# Altium schematic symbol library SAMD21_Main_SCH_Lib.SCHLIB: 16 symbols
Pins are listed as number, name and electrical type; pins without a type are passive.

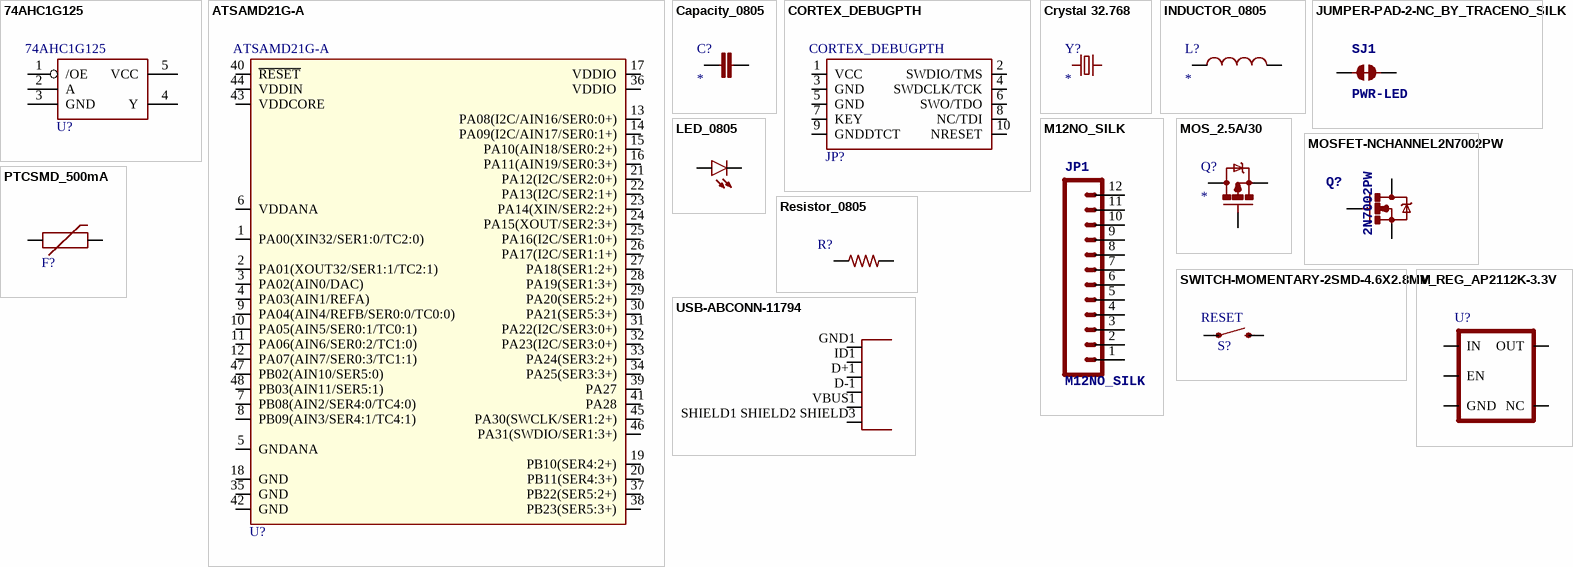
[diagram p0: symbols 74AHC1G125 to V_REG_AP2112K-3.3V]

## 74AHC1G125
designator U?
Single bus buffer gate with 3-state output
footprint SOT23-5
pins: 1 /OE, 2 A, 3 GND, 4 Y, 5 VCC

## ATSAMD21G-A
designator U?
footprint TQFP-48
pins: 1 PA00(XIN32/SER1:0/TC2:0), 2 PA01(XOUT32/SER1:1/TC2:1), 3 PA02(AIN0/DAC), 4 PA03(AIN1/REFA), 5 GNDANA, 6 VDDANA, 7 PB08(AIN2/SER4:0/TC4:0), 8 PB09(AIN3/SER4:1/TC4:1), 9 PA04(AIN4/REFB/SER0:0/TC0:0), 10 PA05(AIN5/SER0:1/TC0:1), 11 PA06(AIN6/SER0:2/TC1:0), 12 PA07(AIN7/SER0:3/TC1:1), 13 PA08(I2C/AIN16/SER0:0+), 14 PA09(I2C/AIN17/SER0:1+), 15 PA10(AIN18/SER0:2+), 16 PA11(AIN19/SER0:3+), 17 VDDIO, 18 GND, 19 PB10(SER4:2+), 20 PB11(SER4:3+), 21 PA12(I2C/SER2:0+), 22 PA13(I2C/SER2:1+), 23 PA14(XIN/SER2:2+), 24 PA15(XOUT/SER2:3+), 25 PA16(I2C/SER1:0+), 26 PA17(I2C/SER1:1+), 27 PA18(SER1:2+), 28 PA19(SER1:3+), 29 PA20(SER5:2+), 30 PA21(SER5:3+), 31 PA22(I2C/SER3:0+), 32 PA23(I2C/SER3:0+), 33 PA24(SER3:2+), 34 PA25(SER3:3+), 35 GND, 36 VDDIO, 37 PB22(SER5:2+), 38 PB23(SER5:3+), 39 PA27, 40 ~{RESET}, 41 PA28, 42 GND, 43 VDDCORE, 44 VDDIN, 45 PA30(SWCLK/SER1:2+), 46 PA31(SWDIO/SER1:3+), 47 PB02(AIN10/SER5:0), 48 PB03(AIN11/SER5:1)

## Capacity_0805
designator C?
footprint C0805 (Chip Capacity, 2-Leads, Body 2,10x1,30mm, IPC Medium Density)
pins: 1, 2

## CORTEX_DEBUGPTH
designator JP?
footprint 2X5-PTH-1.27MM
pins: 1 VCC, 2 SWDIO/TMS, 3 GND, 4 SWDCLK/TCK, 5 GND, 6 SWO/TDO, 7 KEY, 8 NC/TDI, 9 GNDDTCT, 10 NRESET

## Crystal 32.768
designator Y?
footprint CRYSTAL-SMD-3.2X1.5MM
pins: P$1 1, P$2 2

## INDUCTOR_0805
designator L?
footprint L0805 (Chip Inductor, 2-Leads, Body 2,10x1,30mm, IPC Medium Density)
pins: 1, 2

## JUMPER-PAD-2-NC_BY_TRACENO_SILK
designator SJ?, comment >NAME: SJ1  (hidden comment: PWR-LED)
>VALUE: PWR-LED
footprint PAD-JUMPER-2-NC_BY_TRACE_NO_SILK
pins: 1, 2

## LED_0805
designator D?, comment Yellow  (value not drawn)
footprint LED-0805 (Chip Resistor, 2-Leads, Body 2,10x1,30mm, IPC Medium Density)
pins: A, C

## M12NO_SILK
designator JP?  >NAME: JP1  (hidden comment: M12NO_SILK)
<b>Header 12</b> / Standard 12-pin 0.1" header. Use with straight break away headers (SKU : PRT-00116), right angle break away headers (PRT-00553), swiss pins (PRT-00743), machine pins (PRT-00117), and female headers (PRT-00115).; >VALUE: M12NO_SILK
footprint 1X12_NO_SILK
pins: 1, 2, 3, 4, 5, 6, 7, 8, 9, 10, 11, 12

## MOS_2.5A/30
designator Q?
footprint SOT23-3
pins: 1 G, 2 S, 3 D

## MOSFET-NCHANNEL2N7002PW
designator Q?, comment 2N7002PW
footprint SOT323
pins: 1 G, 2 S, 3 D

## PTCSMD_500mA
designator F?
Resettable Fuse
footprint PTC-1206
pins: 1, 2

## Resistor_0805
designator R?
footprint R0805 (Chip Resistor, 2-Leads, Body 2,10x1,30mm, IPC Medium Density)
pins: 1, 2

## SWITCH-MOMENTARY-2SMD-4.6X2.8MM
designator S?, comment RESET
Various NO switches- pushbuttons, reed, etc
footprint TACTILE_SWITCH_SMD_4.6X2.8MM
pins: 1 2 1, 3 4 2

## USB-ABCONN-11794
designator JP?  (value not drawn)
This is a USB AB connector that is compatible with USB OTG. i.e. this connector can serve as a host or device
footprint USB-AB-MICRO-SMD_V03
pins: D+1 D+, D-1 D-, GND1 GND, ID1 USBID, SHIELD1 SHIELD2 SHIELD3 SHIELD, VBUS1 VBUS

## V_REG_AP2112K-3.3V
designator U?
footprint SOT23-5
pins: 1 IN, 2 GND, 3 EN, 4 NC, 5 OUT